# Altium schematic symbol library CM5 Nas.SchLib: 49 symbols
Pins are listed as number, name and electrical type; pins without a type are passive.

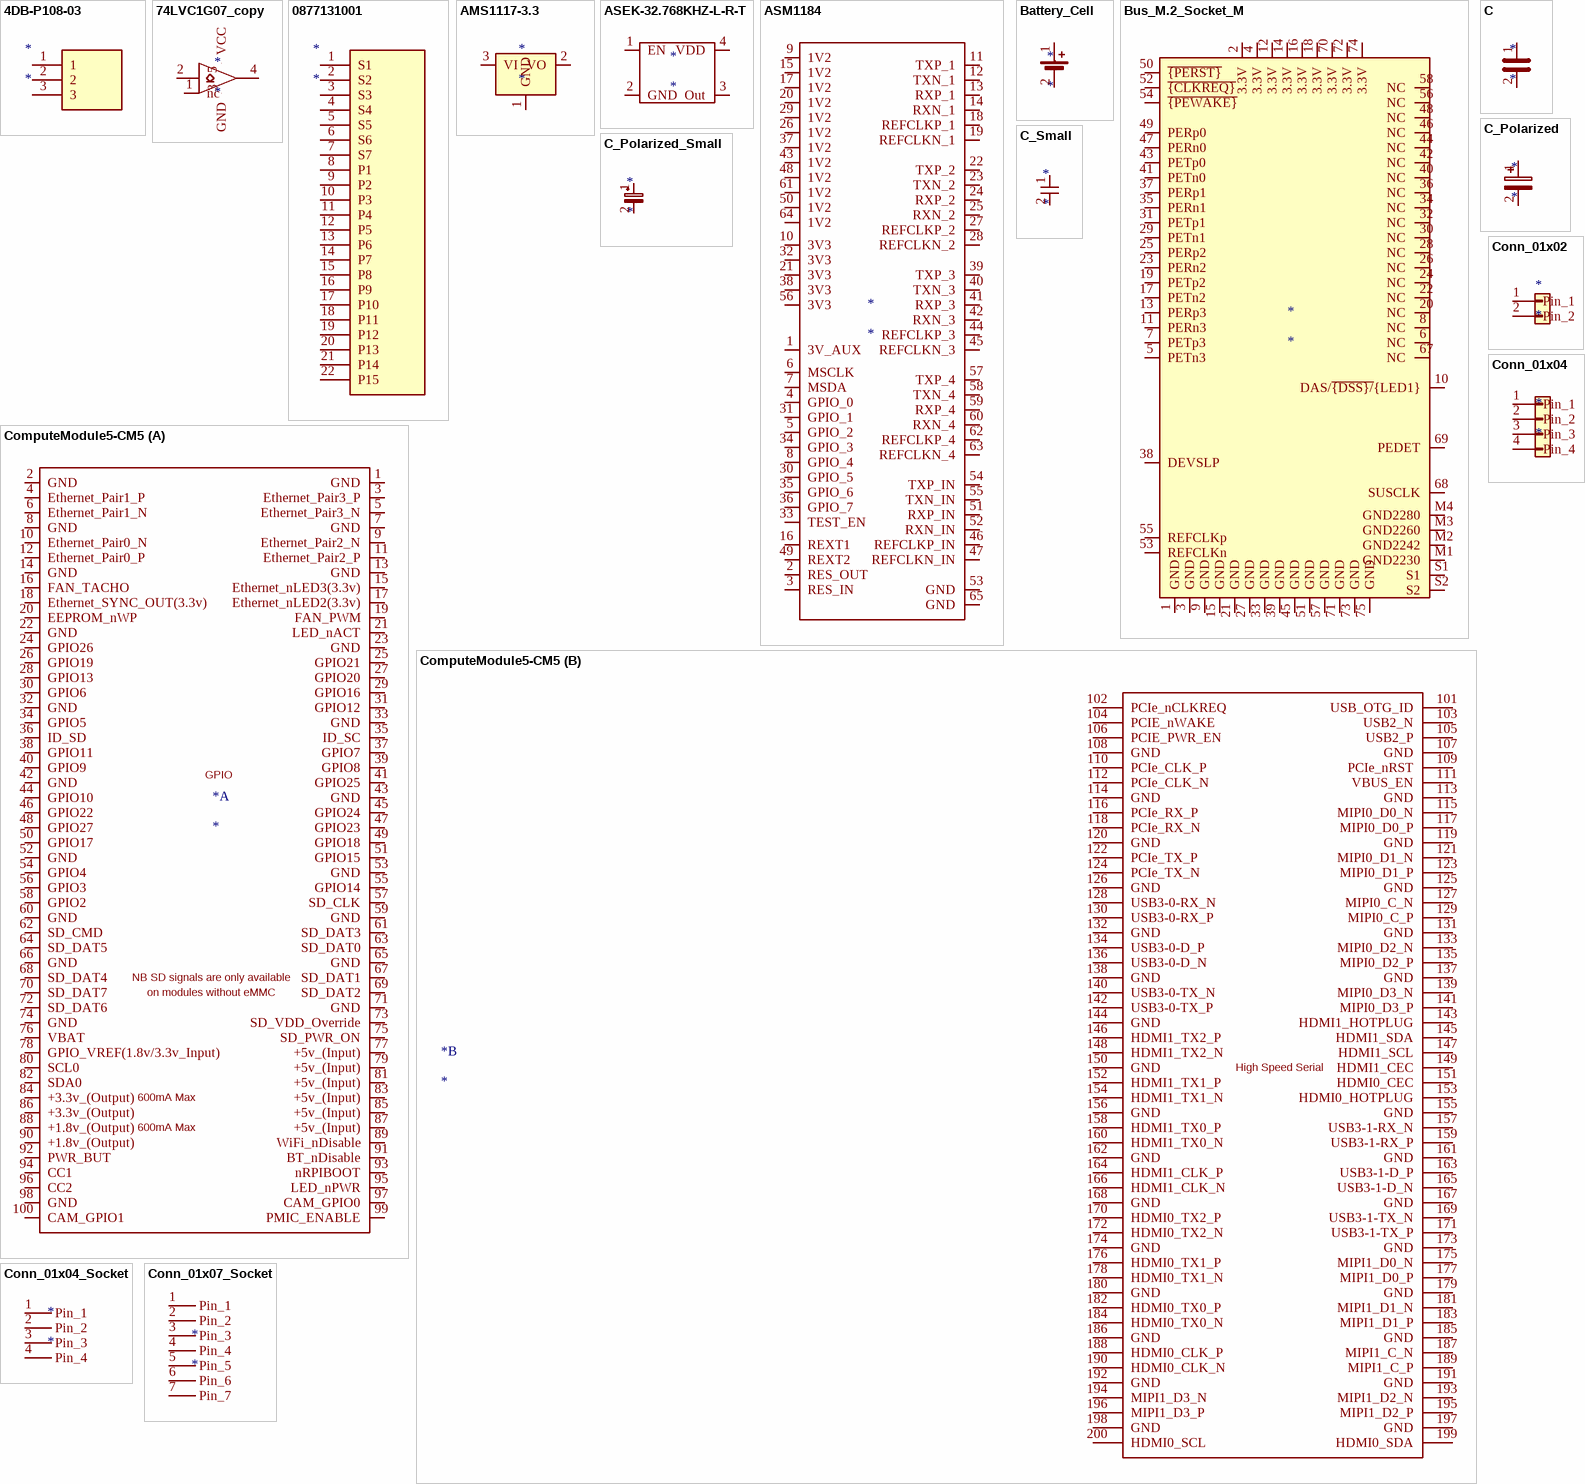
[diagram p0: symbols 4DB-P108-03 to Conn_01x07_Socket]

## 4DB-P108-03
designator *
pins: 1, 2, 3

## 74LVC1G07_copy
designator *
pins: 1 nc, 2, 3 GND, 4, 5 VCC

## 0877131001
designator *
pins: 1 S1, 2 S2, 3 S3, 4 S4, 5 S5, 6 S6, 7 S7, 8 P1, 9 P2, 10 P3, 11 P4, 12 P5, 13 P6, 14 P7, 15 P8, 16 P9, 17 P10, 18 P11, 19 P12, 20 P13, 21 P14, 22 P15

## AMS1117-3.3
designator *
pins: 1 GND, 2 VO, 3 VI

## ASEK-32.768KHZ-L-R-T
designator *
pins: 1 EN, 2 GND, 3 Out, 4 VDD

## ASM1184
designator *
pins: 1 3V_AUX, 2 RES_OUT, 3 RES_IN, 4 GPIO_0, 5 GPIO_2, 6 MSCLK, 7 MSDA, 8 GPIO_4, 9 1V2, 10 3V3, 11 TXP_1, 12 TXN_1, 13 RXP_1, 14 RXN_1, 15 1V2, 16 REXT1, 17 1V2, 18 REFCLKP_1, 19 REFCLKN_1, 20 1V2, 21 3V3, 22 TXP_2, 23 TXN_2, 24 RXP_2, 25 RXN_2, 26 1V2, 27 REFCLKP_2, 28 REFCLKN_2, 29 1V2, 30 GPIO_5, 31 GPIO_1, 32 3V3, 33 TEST_EN, 34 GPIO_3, 35 GPIO_6, 36 GPIO_7, 37 1V2, 38 3V3, 39 TXP_3, 40 TXN_3, 41 RXP_3, 42 RXN_3, 43 1V2, 44 REFCLKP_3, 45 REFCLKN_3, 46 REFCLKP_IN, 47 REFCLKN_IN, 48 1V2, 49 REXT2, 50 1V2, 51 RXP_IN, 52 RXN_IN, 53 GND, 54 TXP_IN, 55 TXN_IN, 56 3V3, 57 TXP_4, 58 TXN_4, 59 RXP_4, 60 RXN_4, 61 1V2, 62 REFCLKP_4, 63 REFCLKN_4, 64 1V2, 65 GND

## Battery_Cell
designator *
pins: 1 +, 2 -

## Bus_M.2_Socket_M
designator *
pins: 1 GND, 2 3.3V, 3 GND, 4 3.3V, 5 PETn3, 6 NC, 7 PETp3, 8 NC, 9 GND, 10 DAS/~{{DSS}/}{LED1}, 11 PERn3, 12 3.3V, 13 PERp3, 14 3.3V, 15 GND, 16 3.3V, 17 PETn2, 18 3.3V, 19 PETp2, 20 NC, 21 GND, 22 NC, 23 PERn2, 24 NC, 25 PERp2, 26 NC, 27 GND, 28 NC, 29 PETn1, 30 NC, 31 PETp1, 32 NC, 33 GND, 34 NC, 35 PERn1, 36 NC, 37 PERp1, 38 DEVSLP, 39 GND, 40 NC, 41 PETn0, 42 NC, 43 PETp0, 44 NC, 45 GND, 46 NC, 47 PERn0, 48 NC, 49 PERp0, 50 ~{{PERST}}, 51 GND, 52 ~{{CLKREQ}}, 53 REFCLKn, 54 ~{{PEWAKE}}, 55 REFCLKp, 56 NC, 57 GND, 58 NC, 67 NC, 68 SUSCLK, 69 PEDET, 70 3.3V, 71 GND, 72 3.3V, 73 GND, 74 3.3V, 75 GND, M1 GND2230, M2 GND2242, M3 GND2260, M4 GND2280, S1, S2

## C
designator *
pins: 1, 2

## C_Polarized
designator *
pins: 1, 2

## C_Polarized_Small
designator *
pins: 1, 2

## C_Small
designator *
pins: 1, 2

## ComputeModule5-CM5
designator *
part A pins: 1 GND, 2 GND, 3 Ethernet_Pair3_P, 4 Ethernet_Pair1_P, 5 Ethernet_Pair3_N, 6 Ethernet_Pair1_N, 7 GND, 8 GND, 9 Ethernet_Pair2_N, 10 Ethernet_Pair0_N, 11 Ethernet_Pair2_P, 12 Ethernet_Pair0_P, 13 GND, 14 GND, 15 Ethernet_nLED3(3.3v), 16 FAN_TACHO, 17 Ethernet_nLED2(3.3v), 18 Ethernet_SYNC_OUT(3.3v), 19 FAN_PWM, 20 EEPROM_nWP, 21 LED_nACT, 22 GND, 23 GND, 24 GPIO26, 25 GPIO21, 26 GPIO19, 27 GPIO20, 28 GPIO13, 29 GPIO16, 30 GPIO6, 31 GPIO12, 32 GND, 33 GND, 34 GPIO5, 35 ID_SC, 36 ID_SD, 37 GPIO7, 38 GPIO11, 39 GPIO8, 40 GPIO9, 41 GPIO25, 42 GND, 43 GND, 44 GPIO10, 45 GPIO24, 46 GPIO22, 47 GPIO23, 48 GPIO27, 49 GPIO18, 50 GPIO17, 51 GPIO15, 52 GND, 53 GND, 54 GPIO4, 55 GPIO14, 56 GPIO3, 57 SD_CLK, 58 GPIO2, 59 GND, 60 GND, 61 SD_DAT3, 62 SD_CMD, 63 SD_DAT0, 64 SD_DAT5, 65 GND, 66 GND, 67 SD_DAT1, 68 SD_DAT4, 69 SD_DAT2, 70 SD_DAT7, 71 GND, 72 SD_DAT6, 73 SD_VDD_Override, 74 GND, 75 SD_PWR_ON, 76 VBAT, 77 +5v_(Input), 78 GPIO_VREF(1.8v/3.3v_Input), 79 +5v_(Input), 80 SCL0, 81 +5v_(Input), 82 SDA0, 83 +5v_(Input), 84 +3.3v_(Output), 85 +5v_(Input), 86 +3.3v_(Output), 87 +5v_(Input), 88 +1.8v_(Output), 89 WiFi_nDisable, 90 +1.8v_(Output), 91 BT_nDisable, 92 PWR_BUT, 93 nRPIBOOT, 94 CC1, 95 LED_nPWR, 96 CC2, 97 CAM_GPIO0, 98 GND, 99 PMIC_ENABLE, 100 CAM_GPIO1
part B pins: 101 USB_OTG_ID, 102 PCIe_nCLKREQ, 103 USB2_N, 104 PCIE_nWAKE, 105 USB2_P, 106 PCIE_PWR_EN, 107 GND, 108 GND, 109 PCIe_nRST, 110 PCIe_CLK_P, 111 VBUS_EN, 112 PCIe_CLK_N, 113 GND, 114 GND, 115 MIPI0_D0_N, 116 PCIe_RX_P, 117 MIPI0_D0_P, 118 PCIe_RX_N, 119 GND, 120 GND, 121 MIPI0_D1_N, 122 PCIe_TX_P, 123 MIPI0_D1_P, 124 PCIe_TX_N, 125 GND, 126 GND, 127 MIPI0_C_N, 128 USB3-0-RX_N, 129 MIPI0_C_P, 130 USB3-0-RX_P, 131 GND, 132 GND, 133 MIPI0_D2_N, 134 USB3-0-D_P, 135 MIPI0_D2_P, 136 USB3-0-D_N, 137 GND, 138 GND, 139 MIPI0_D3_N, 140 USB3-0-TX_N, 141 MIPI0_D3_P, 142 USB3-0-TX_P, 143 HDMI1_HOTPLUG, 144 GND, 145 HDMI1_SDA, 146 HDMI1_TX2_P, 147 HDMI1_SCL, 148 HDMI1_TX2_N, 149 HDMI1_CEC, 150 GND, 151 HDMI0_CEC, 152 HDMI1_TX1_P, 153 HDMI0_HOTPLUG, 154 HDMI1_TX1_N, 155 GND, 156 GND, 157 USB3-1-RX_N, 158 HDMI1_TX0_P, 159 USB3-1-RX_P, 160 HDMI1_TX0_N, 161 GND, 162 GND, 163 USB3-1-D_P, 164 HDMI1_CLK_P, 165 USB3-1-D_N, 166 HDMI1_CLK_N, 167 GND, 168 GND, 169 USB3-1-TX_N, 170 HDMI0_TX2_P, 171 USB3-1-TX_P, 172 HDMI0_TX2_N, 173 GND, 174 GND, 175 MIPI1_D0_N, 176 HDMI0_TX1_P, 177 MIPI1_D0_P, 178 HDMI0_TX1_N, 179 GND, 180 GND, 181 MIPI1_D1_N, 182 HDMI0_TX0_P, 183 MIPI1_D1_P, 184 HDMI0_TX0_N, 185 GND, 186 GND, 187 MIPI1_C_N, 188 HDMI0_CLK_P, 189 MIPI1_C_P, 190 HDMI0_CLK_N, 191 GND, 192 GND, 193 MIPI1_D2_N, 194 MIPI1_D3_N, 195 MIPI1_D2_P, 196 MIPI1_D3_P, 197 GND, 198 GND, 199 HDMI0_SDA, 200 HDMI0_SCL
part A text: GPIO; NB SD signals are only available; on modules without eMMC; 600mA Max
part B text: High Speed Serial

## Conn_01x02
designator *
pins: 1 Pin_1, 2 Pin_2

## Conn_01x04
designator *
pins: 1 Pin_1, 2 Pin_2, 3 Pin_3, 4 Pin_4

## Conn_01x04_Socket
designator *
pins: 1 Pin_1, 2 Pin_2, 3 Pin_3, 4 Pin_4

## Conn_01x07_Socket
designator *
pins: 1 Pin_1, 2 Pin_2, 3 Pin_3, 4 Pin_4, 5 Pin_5, 6 Pin_6, 7 Pin_7

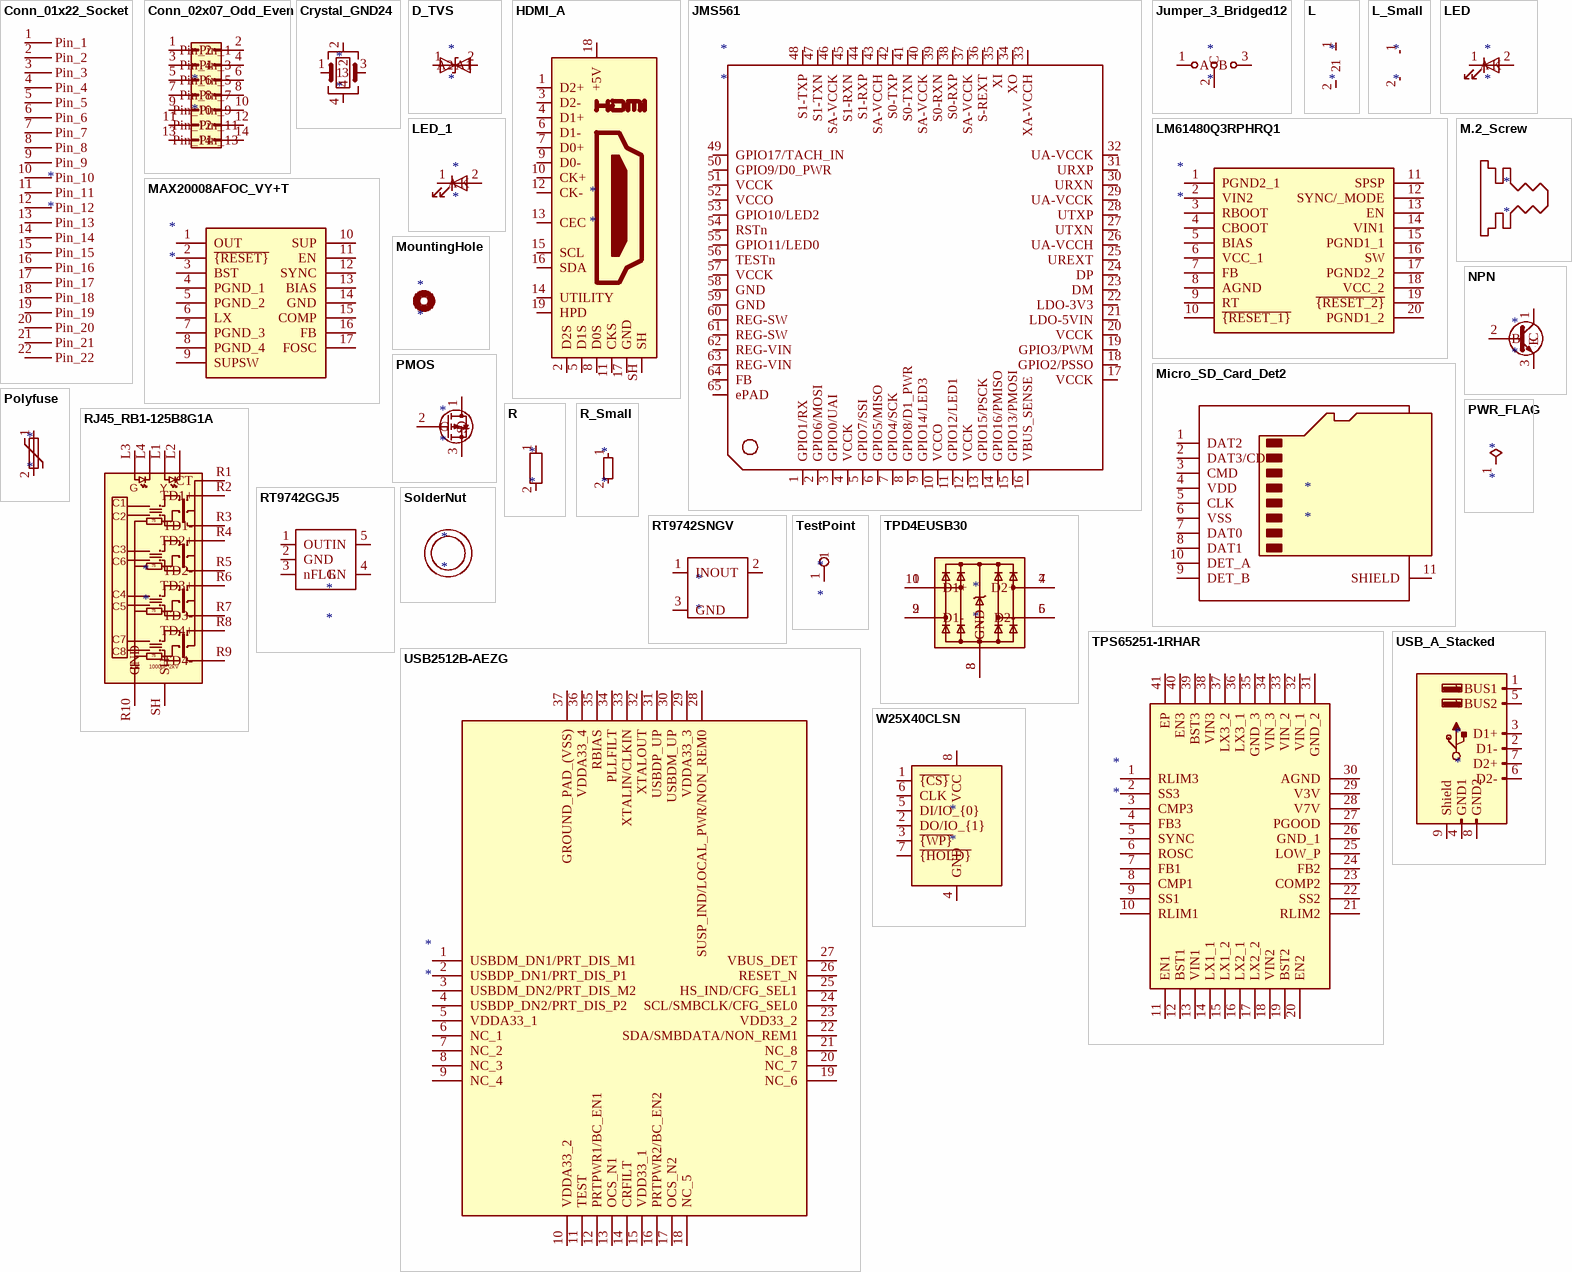
[diagram p1: symbols Conn_01x22_Socket to W25X40CLSN]

## Conn_01x22_Socket
designator *
pins: 1 Pin_1, 2 Pin_2, 3 Pin_3, 4 Pin_4, 5 Pin_5, 6 Pin_6, 7 Pin_7, 8 Pin_8, 9 Pin_9, 10 Pin_10, 11 Pin_11, 12 Pin_12, 13 Pin_13, 14 Pin_14, 15 Pin_15, 16 Pin_16, 17 Pin_17, 18 Pin_18, 19 Pin_19, 20 Pin_20, 21 Pin_21, 22 Pin_22

## Conn_02x07_Odd_Even
designator *
pins: 1 Pin_1, 2 Pin_2, 3 Pin_3, 4 Pin_4, 5 Pin_5, 6 Pin_6, 7 Pin_7, 8 Pin_8, 9 Pin_9, 10 Pin_10, 11 Pin_11, 12 Pin_12, 13 Pin_13, 14 Pin_14

## Crystal_GND24
designator *
pins: 1, 2, 3, 4

## D_TVS
designator *
pins: 1 A1, 2 A2

## HDMI_A
designator *
pins: 1 D2+, 2 D2S, 3 D2-, 4 D1+, 5 D1S, 6 D1-, 7 D0+, 8 D0S, 9 D0-, 10 CK+, 11 CKS, 12 CK-, 13 CEC, 14 UTILITY, 15 SCL, 16 SDA, 17 GND, 18 +5V, 19 HPD, SH

## JMS561
designator *
pins: 1 GPIO1/RX, 2 GPIO6/MOSI, 3 GPIO0/UAI, 4 VCCK, 5 GPIO7/SSI, 6 GPIO5/MISO, 7 GPIO4/SCK, 8 GPIO8/D1_PWR, 9 GPIO14/LED3, 10 VCCO, 11 GPIO12/LED1, 12 VCCK, 13 GPIO15/PSCK, 14 GPIO16/PMISO, 15 GPIO13/PMOSI, 16 VBUS_SENSE, 17 VCCK, 18 GPIO2/PSSO, 19 GPIO3/PWM, 20 VCCK, 21 LDO-5VIN, 22 LDO-3V3, 23 DM, 24 DP, 25 UREXT, 26 UA-VCCH, 27 UTXN, 28 UTXP, 29 UA-VCCK, 30 URXN, 31 URXP, 32 UA-VCCK, 33 XA-VCCH, 34 XO, 35 XI, 36 S-REXT, 37 SA-VCCK, 38 S0-RXP, 39 S0-RXN, 40 SA-VCCK, 41 S0-TXN, 42 S0-TXP, 43 SA-VCCH, 44 S1-RXP, 45 S1-RXN, 46 SA-VCCK, 47 S1-TXN, 48 S1-TXP, 49 GPIO17/TACH_IN, 50 GPIO9/D0_PWR, 51 VCCK, 52 VCCO, 53 GPIO10/LED2, 54 RSTn, 55 GPIO11/LED0, 56 TESTn, 57 VCCK, 58 GND, 59 GND, 60 REG-SW, 61 REG-SW, 62 REG-VIN, 63 REG-VIN, 64 FB, 65 ePAD

## Jumper_3_Bridged12
designator *
pins: 1 A, 2 C, 3 B

## L
designator *
pins: 1, 2

## L_Small
designator *
pins: 1, 2

## LED
designator *
pins: 1 K, 2 A

## LED_1
designator *
pins: 1 K, 2 A

## LM61480Q3RPHRQ1
designator *
pins: 1 PGND2_1, 2 VIN2, 3 RBOOT, 4 CBOOT, 5 BIAS, 6 VCC_1, 7 FB, 8 AGND, 9 RT, 10 ~{{RESET_1}}, 11 SPSP, 12 SYNC/_MODE, 13 EN, 14 VIN1, 15 PGND1_1, 16 SW, 17 PGND2_2, 18 VCC_2, 19 ~{{RESET_2}}, 20 PGND1_2

## M.2_Screw
designator *

## MAX20008AFOC_VY+T
designator *
pins: 1 OUT, 2 ~{{RESET}}, 3 BST, 4 PGND_1, 5 PGND_2, 6 LX, 7 PGND_3, 8 PGND_4, 9 SUPSW, 10 SUP, 11 EN, 12 SYNC, 13 BIAS, 14 GND, 15 COMP, 16 FB, 17 FOSC

## Micro_SD_Card_Det2
designator *
pins: 1 DAT2, 2 DAT3/CD, 3 CMD, 4 VDD, 5 CLK, 6 VSS, 7 DAT0, 8 DAT1, 9 DET_B, 10 DET_A, 11 SHIELD

## MountingHole
designator *

## NPN
designator *
pins: 1 C, 2 B, 3 E

## PMOS
designator *
pins: 1 D, 2 G, 3 S

## Polyfuse
designator *
pins: 1, 2

## PWR_FLAG
designator *  (graphical)
pins: 1

## R
designator *
pins: 1, 2

## R_Small
designator *
pins: 1, 2

## RJ45_RB1-125B8G1A
designator *
pins: L1, L2, L3, L4, R1 CT, R2 TD1+, R3 TD1-, R4 TD2+, R5 TD2-, R6 TD3+, R7 TD3-, R8 TD4+, R9 TD4-, R10 GND, SH
text: G; Y; C1; C2; 75; C3; C6; C4; C5; C7; C8; 1000pF 2kV

## RT9742GGJ5
designator *
pins: 1 OUT, 2 GND, 3 nFLG, 4 EN, 5 IN

## RT9742SNGV
designator *
pins: 1 IN, 2 OUT, 3 GND

## SolderNut
designator *

## TestPoint
designator *
pins: 1

## TPD4EUSB30
designator *
pins: 1 D1+, 2 D1-, 3 GND, 4 D2+, 5 D2-, 6, 7, 8 GND, 9, 10

## TPS65251-1RHAR
designator *
pins: 1 RLIM3, 2 SS3, 3 CMP3, 4 FB3, 5 SYNC, 6 ROSC, 7 FB1, 8 CMP1, 9 SS1, 10 RLIM1, 11 EN1, 12 BST1, 13 VIN1, 14 LX1_1, 15 LX1_2, 16 LX2_1, 17 LX2_2, 18 VIN2, 19 BST2, 20 EN2, 21 RLIM2, 22 SS2, 23 COMP2, 24 FB2, 25 LOW_P, 26 GND_1, 27 PGOOD, 28 V7V, 29 V3V, 30 AGND, 31 GND_2, 32 VIN_1, 33 VIN_2, 34 VIN_3, 35 GND_3, 36 LX3_1, 37 LX3_2, 38 VIN3, 39 BST3, 40 EN3, 41 EP

## USB2512B-AEZG
designator *
pins: 1 USBDM_DN1/PRT_DIS_M1, 2 USBDP_DN1/PRT_DIS_P1, 3 USBDM_DN2/PRT_DIS_M2, 4 USBDP_DN2/PRT_DIS_P2, 5 VDDA33_1, 6 NC_1, 7 NC_2, 8 NC_3, 9 NC_4, 10 VDDA33_2, 11 TEST, 12 PRTPWR1/BC_EN1, 13 OCS_N1, 14 CRFILT, 15 VDD33_1, 16 PRTPWR2/BC_EN2, 17 OCS_N2, 18 NC_5, 19 NC_6, 20 NC_7, 21 NC_8, 22 SDA/SMBDATA/NON_REM1, 23 VDD33_2, 24 SCL/SMBCLK/CFG_SEL0, 25 HS_IND/CFG_SEL1, 26 RESET_N, 27 VBUS_DET, 28 SUSP_IND/LOCAL_PWR/NON_REM0, 29 VDDA33_3, 30 USBDM_UP, 31 USBDP_UP, 32 XTALOUT, 33 XTALIN/CLKIN, 34 PLLFILT, 35 RBIAS, 36 VDDA33_4, 37 GROUND_PAD_(VSS)

## USB_A_Stacked
designator *
pins: 1 VBUS1, 2 D1-, 3 D1+, 4 GND1, 5 VBUS2, 6 D2-, 7 D2+, 8 GND2, 9 Shield

## W25X40CLSN
designator *
pins: 1 ~{{CS}}, 2 DO/IO_{1}, 3 ~{{WP}}, 4 GND, 5 DI/IO_{0}, 6 CLK, 7 ~{{HOLD}}, 8 VCC